# Altium footprint library LoraSMS.PcbLib: 27 footprints (part 2 of 2)
Each footprint in its own frame and in the unit in brackets; x right, y up, seen from the top. Pads: shape width x height; smd on the part's side, far side on the other; paste and mask are expansions set on the pad; w line width, h text height; cw(c..) or ccw(c..) is an arc to the next point about the centre after c.
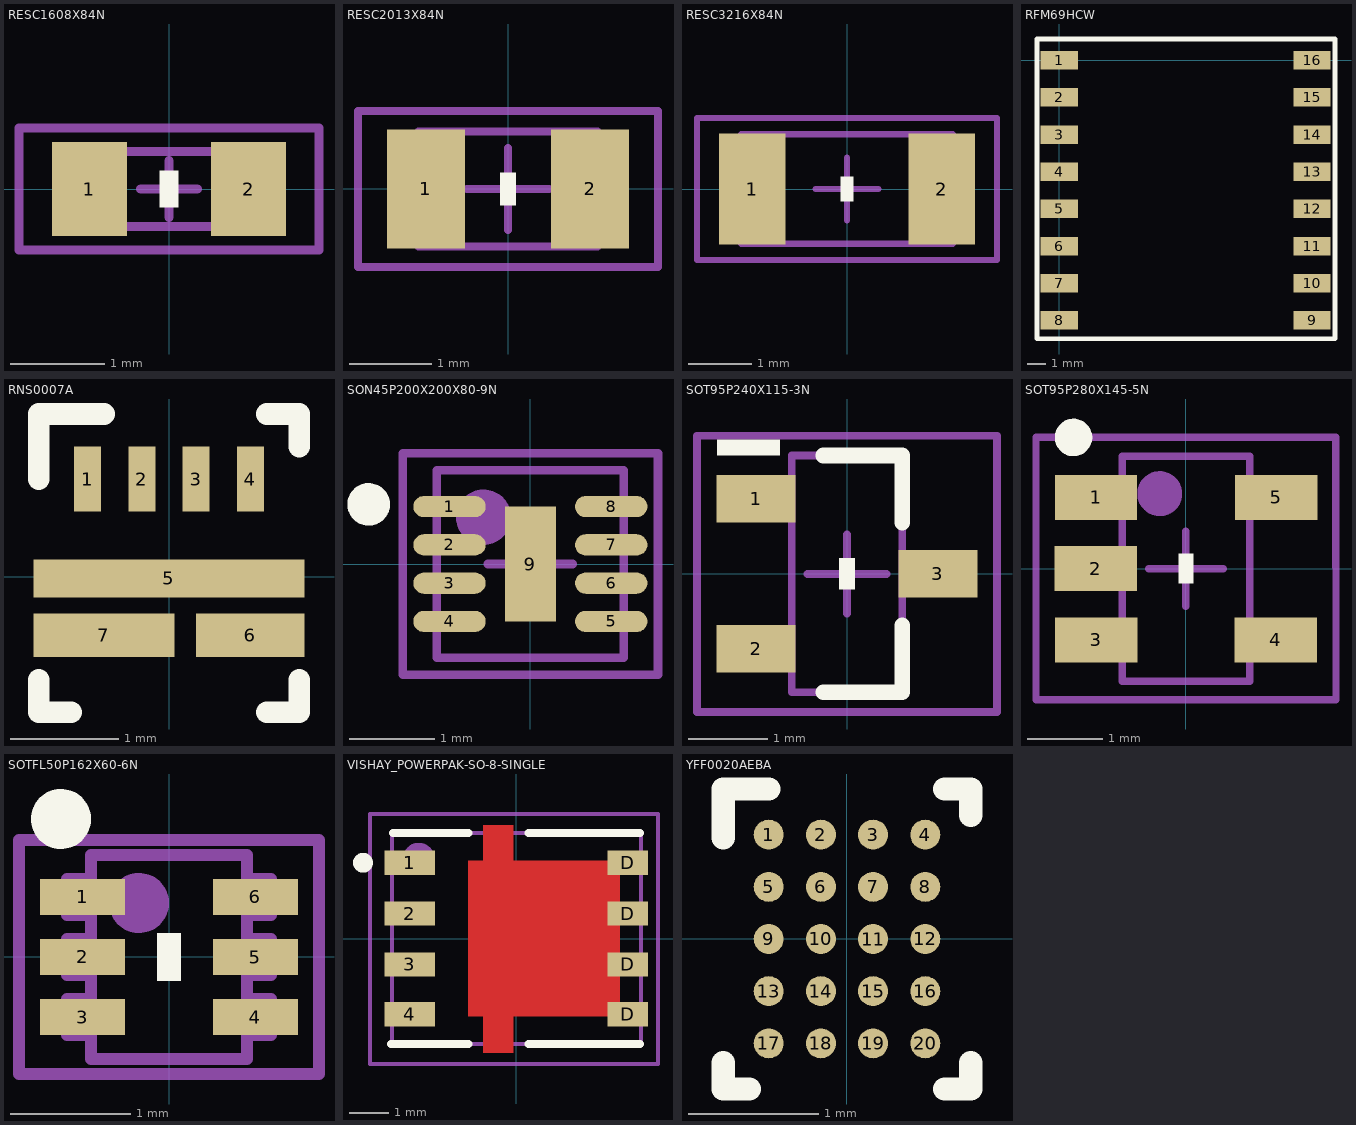
[diagram p1: the footprints below, top view; thin cyan lines are the x and y axes]

## RESC1608X84N [mm] "Chip Resistor, Body 1.6x0.8mm, IPC Medium Density"
height 0.84
pads (2):
  rect 0.8x1 smd: 1(-0.85,0) 2(0.85,0)
Top Overlay:
  rectangle: -0.1,-0.2 0.1,0.2
Mechanical 5:
  text ".Designator" at 0,0 h0.64
Mechanical 13:
  lines w0.1: -0.8,-0.4 -0.8,0.4 0.8,0.4 0.8,-0.4 -0.8,-0.4
Mechanical 15:
  lines w0.1: -0.3,0 0.3,0 ; 0,-0.3 0,0.3 ; -1.6,-0.65 -1.6,0.65 1.6,0.65 1.6,-0.65 -1.6,-0.65
3D body: height 0.84, standoff 0, extent -0.799,-0.399 0.799,0.399

## RESC2013X84N [mm] "Chip Resistor, 2-Leads, Body 2.0x1.3mm, IPC Medium Density"
height 0.84
pads (2):
  rect 0.95x1.45 smd: 1(-1,0) 2(1,0)
Top Overlay:
  rectangle: -0.1,-0.2 0.1,0.2
Mechanical 5:
  text ".Designator" at 0,0 h0.64
Mechanical 13:
  lines w0.1: -1.09,-0.7 1.09,-0.7 1.09,0.7 -1.09,0.7 -1.09,-0.7
Mechanical 15:
  lines w0.1: -0.5,0 0.5,0 ; 0,-0.5 0,0.5 ; -1.825,-0.95 1.825,-0.95 1.825,0.95 -1.825,0.95 -1.825,-0.95
3D body: height 0.84, standoff 0, extent -1.089,-0.699 1.089,0.699

## RESC3216X84N [mm] "Chip Resistor, 2-Leads, Body 3.2x1.6mm, IPC Medium Density"
height 0.84
pads (2):
  rect 1.05x1.75 smd: 1(-1.5,0) 2(1.5,0)
Top Overlay:
  rectangle: -0.1,-0.2 0.1,0.2
Mechanical 5:
  text ".Designator" at 0,0 h0.64
Mechanical 13:
  lines w0.1: -1.675,-0.865 -1.675,0.865 1.675,0.865 1.675,-0.865 -1.675,-0.865
Mechanical 15:
  lines w0.1: -0.5,0 0.5,0 ; 0,-0.5 0,0.5 ; -2.375,-1.125 -2.375,1.125 2.375,1.125 2.375,-1.125 -2.375,-1.125
3D body: height 0.84, standoff 0, extent -1.674,-0.864 1.674,0.864

## RFM69HCW [mm]
height 1.8
pads (16):
  rect 2x1 smd: 1(0,0) 2(0,-2) 3(0,-4) 4(0,-6) 5(0,-8) 6(0,-10) 7(0,-12) 8(0,-14) 9(13.6,-14) 10(13.6,-12) 11(13.6,-10) 12(13.6,-8) 13(13.6,-6) 14(13.6,-4) 15(13.6,-2) 16(13.6,0)
Top Overlay:
  lines w0.254: -1.194,-14.986 14.834,-14.986 14.834,1.143 -1.194,1.143 -1.194,-14.986
3D body: height 1.8, standoff 0, extent -1.194,-14.961 14.808,1.143

## RNS0007A [mm]
height 5.54
pads (7):
  rect 0.25x0.6 smd: 1(-0.75,0.9) 2(-0.25,0.9) 3(0.25,0.9) 4(0.75,0.9)
  rect 2.5x0.35 smd: 5(0,-0.015)
  rect 1x0.4 smd: 6(0.75,-0.54)
  rect 1.3x0.4 smd: 7(-0.6,-0.54)
Top Overlay:
  lines w0.2: -1.2,-0.95 -1.2,-1.25 -0.9,-1.25 ; -1.2,0.9 -1.2,1.5 -0.6,1.5 ; 0.9,-1.25 1.2,-1.25 1.2,-0.95 ; 0.9,1.5 1.2,1.5 1.2,1.2

## SON45P200X200X80-9N [mm] "SMALL OUTLINE NO LEAD, 8-Leads, Body 2.1x2.1mm (max), Pitch 0.45mm, IPC Medium Density"
height 0.8
pads (9):
  oval 0.85x0.25 smd: 1(-0.95,0.675) 2(-0.95,0.225) 3(-0.95,-0.225) 4(-0.95,-0.675) 5(0.95,-0.675) 6(0.95,-0.225) 7(0.95,0.225) 8(0.95,0.675)
  rect 0.6x1.35 smd: 9(0,0)
Top Overlay:
  circle w0.25: c-1.9,0.7 r0.125
Mechanical 5:
  text ".Designator" at 0,0 h0.64
Mechanical 13:
  circle w0.35: c-0.55,0.55 r0.15
  lines w0.1: -1.1,-1.1 -1.1,1.1 1.1,1.1 1.1,-1.1 -1.1,-1.1
Mechanical 15:
  lines w0.1: -0.5,0 0.5,0 ; 0,-0.5 0,0.5 ; -1.5,-1.3 -1.5,1.3 1.5,1.3 1.5,-1.3 -1.5,-1.3
3D body: height 0.8, standoff 0, extent -1.099,-1.099 1.099,1.099

## SOT95P240X115-3N [mm] "SOT23, 3-Leads, Body 3.0x2.5mm (max), Pitch 0.95mm, IPC Medium Density"
height 1.15
pads (3):
  rect 1x0.6 smd: 1(-1.15,0.95) 2(-1.15,-0.95) 3(1.15,0)
Top Overlay:
  region: -0.85,1.5 -0.85,1.7 -1.65,1.7 -1.65,1.5
  rectangle: -0.1,-0.2 0.1,0.2
  lines w0.2: -0.3,-1.5 0.7,-1.5 0.7,-0.65 ; -0.3,1.5 0.7,1.5 0.7,0.65
Mechanical 5:
  text ".Designator" at 0,0 h0.64
Mechanical 13:
  lines w0.1: -0.7,-1.5 -0.7,1.5 0.7,1.5 0.7,-1.5 -0.7,-1.5
Mechanical 15:
  lines w0.1: -0.5,0 0.5,0 ; 0,-0.5 0,0.5 ; -1.9,-1.75 -1.9,1.75 1.9,1.75 1.9,-1.75 -1.9,-1.75
3D body: height 1.15, standoff 0, extent -0.7,-1.499 0.699,1.5

## SOT95P280X145-5N [mm] "SOT23, 5-Leads, Body 3.0x3.0mm (max), Pitch 0.95mm, IPC Medium Density"
height 1.45
pads (5):
  rect 1.1x0.6 smd: 1(-1.2,0.95) 2(-1.2,0) 3(-1.2,-0.95) 4(1.2,-0.95) 5(1.2,0.95)
Top Overlay:
  circle w0.25: c-1.5,1.75 r0.125
  rectangle: -0.1,-0.2 0.1,0.2
Mechanical 5:
  text ".Designator" at 0,0 h0.64
Mechanical 13:
  circle w0.3: c-0.35,1 r0.15
  lines w0.1: -0.85,-1.5 0.85,-1.5 0.85,1.5 -0.85,1.5 -0.85,-1.5
Mechanical 15:
  lines w0.1: -0.5,0 0.5,0 ; 0,-0.5 0,0.5 ; -2,-1.75 2,-1.75 2,1.75 -2,1.75 -2,-1.75
3D body: height 1.45, standoff 0, extent -0.849,-1.499 0.849,1.499

## SOTFL50P162X60-6N [mm] "SC89"
height 0.6
pads (6):
  rect 0.71x0.3 smd mask+0.025: 1(-0.72,0.5) 2(-0.72,0) 3(-0.72,-0.5) 4(0.72,-0.5) 5(0.72,0) 6(0.72,0.5)
Top Overlay:
  circle w0.25: c-0.9,1.15 r0.125
  rectangle: -0.1,-0.2 0.1,0.2
Mechanical 5:
  text ".Designator" at 0,0 h0.64
Mechanical 13:
  circle w0.25: c-0.25,0.45 r0.125
  lines w0.1: -0.65,-0.65 -0.85,-0.65 -0.85,-0.35 -0.65,-0.35 ; -0.65,-0.15 -0.85,-0.15 -0.85,0.15 -0.65,0.15 ; -0.65,0.35 -0.85,0.35 -0.85,0.65 -0.65,0.65 ; 0.65,-0.65 0.85,-0.65 0.85,-0.35 0.65,-0.35 ; 0.65,-0.15 0.85,-0.15 0.85,0.15 0.65,0.15 ; 0.65,0.35 0.85,0.35 0.85,0.65 0.65,0.65 ; -0.65,-0.85 -0.65,0.85 0.65,0.85 0.65,-0.85 -0.65,-0.85
Mechanical 15:
  lines w0.1: -1.25,-0.975 1.25,-0.975 1.25,0.975 -1.25,0.975 -1.25,-0.975
3D body: height 0.6, standoff 0, extent 0.651,0.351 0.849,0.649
3D body: height 0.6, standoff 0, extent 0.651,-0.149 0.849,0.149
3D body: height 0.6, standoff 0, extent 0.651,-0.649 0.849,-0.351
3D body: height 0.6, standoff 0, extent -0.849,0.351 -0.651,0.649
3D body: height 0.6, standoff 0, extent -0.649,-0.849 0.649,0.849
3D body: height 0.6, standoff 0, extent -0.849,-0.149 -0.651,0.149
3D body: height 0.6, standoff 0, extent -0.849,-0.649 -0.651,-0.351

## VISHAY_POWERPAK-SO-8-SINGLE [mm] "MOSFET, N-CHANNEL, POWERPAK SO-8 SINGLE"
height 1.12
pads (8):
  rect 1.27x0.61 smd: 1(-2.675,1.9) 2(-2.675,0.625) 3(-2.675,-0.65) 4(-2.675,-1.9)
  rect 1.02x0.61 smd: D(2.79,-1.9) D(2.79,-0.65) D(2.79,1.9) D(2.79,0.625)
Top Layer:
  rectangle: -0.838,1.93 -0.076,2.845
  rectangle: -0.838,-2.87 -0.076,-1.956
  rectangle: -1.219,-1.956 2.591,1.956
Top Overlay:
  circle w0.25: c-3.85,1.9 r0.125
  lines w0.2: -3.15,-2.65 -1.2,-2.65 ; -3.1,2.65 -1.2,2.65 ; 0.3,-2.65 3.1,-2.65 ; 0.3,2.65 3.1,2.65
Top Paste:
  rectangle: -1.168,0.33 1.905,1.575
  rectangle: -1.168,-1.575 1.905,-0.33
  rectangle: -0.813,1.956 -0.102,2.819
  rectangle: -0.813,-2.845 -0.102,-1.956
Top Solder:
  rectangle: -0.85,-2.9 -0.05,-1.95
  rectangle: -0.864,1.92 -0.064,2.87
  rectangle: -1.225,-1.95 2.6,1.956
Mechanical 5:
  text ".Designator" at 0,0 h0.64
Mechanical 13:
  circle w0.4: c-2.45,2 r0.2
  lines w0.1: -3.125,-2.65 3.125,-2.65 3.125,2.65 -3.125,2.65 -3.125,-2.65
Mechanical 15:
  lines w0.1: -3.675,-3.15 3.55,-3.15 3.55,3.125 -3.675,3.125 -3.675,-3.15
  lines w0.254: -0.5,0 0,0 ; 0,-0.5 0,0 ; 0,0.5 0,0 ; 0.5,0 0,0
3D body: height 1.12, standoff 0, extent -3.124,-2.649 3.124,2.649

## YFF0020AEBA [mm]
height 5.54
pads (20):
  round 0.23 smd: 1(-0.6,0.8) 2(-0.2,0.8) 3(0.2,0.8) 4(0.6,0.8) 5(-0.6,0.4) 6(-0.2,0.4) 7(0.2,0.4) 8(0.6,0.4) 9(-0.6,0) 10(-0.2,0) 11(0.2,0) 12(0.6,0) 13(-0.6,-0.4) 14(-0.2,-0.4) 15(0.2,-0.4) 16(0.6,-0.4) 17(-0.6,-0.8) 18(-0.2,-0.8) 19(0.2,-0.8) 20(0.6,-0.8)
Top Overlay:
  lines w0.18: -0.95,-0.95 -0.95,-1.15 -0.75,-1.15 ; -0.95,0.775 -0.95,1.15 -0.6,1.15 ; 0.75,-1.15 0.95,-1.15 0.95,-0.95 ; 0.75,1.15 0.95,1.15 0.95,0.95
Top Paste:
  circle w0.05: c-0.525,-0.725 r0.025
  circle w0.05: c-0.675,-0.875 r0.025
  circle w0.05: c-0.675,-0.725 r0.025
  circle w0.05: c-0.525,-0.875 r0.025
  circle w0.05: c-0.125,-0.875 r0.025
  circle w0.05: c-0.275,-0.725 r0.025
  circle w0.05: c-0.275,-0.875 r0.025
  circle w0.05: c-0.125,-0.725 r0.025
  circle w0.05: c0.275,-0.875 r0.025
  circle w0.05: c0.125,-0.725 r0.025
  circle w0.05: c0.125,-0.875 r0.025
  circle w0.05: c0.275,-0.725 r0.025
  circle w0.05: c0.675,-0.875 r0.025
  circle w0.05: c0.525,-0.725 r0.025
  circle w0.05: c0.525,-0.875 r0.025
  circle w0.05: c0.675,-0.725 r0.025
  circle w0.05: c-0.525,-0.325 r0.025
  circle w0.05: c-0.675,-0.475 r0.025
  circle w0.05: c-0.675,-0.325 r0.025
  circle w0.05: c-0.525,-0.475 r0.025
  circle w0.05: c-0.125,-0.475 r0.025
  circle w0.05: c-0.275,-0.325 r0.025
  circle w0.05: c-0.275,-0.475 r0.025
  circle w0.05: c-0.125,-0.325 r0.025
  circle w0.05: c0.275,-0.475 r0.025
  circle w0.05: c0.125,-0.325 r0.025
  circle w0.05: c0.125,-0.475 r0.025
  circle w0.05: c0.275,-0.325 r0.025
  circle w0.05: c0.675,-0.475 r0.025
  circle w0.05: c0.525,-0.325 r0.025
  circle w0.05: c0.525,-0.475 r0.025
  circle w0.05: c0.675,-0.325 r0.025
  circle w0.05: c-0.525,0.075 r0.025
  circle w0.05: c-0.675,-0.075 r0.025
  circle w0.05: c-0.675,0.075 r0.025
  circle w0.05: c-0.525,-0.075 r0.025
  circle w0.05: c-0.125,-0.075 r0.025
  circle w0.05: c-0.275,0.075 r0.025
  circle w0.05: c-0.275,-0.075 r0.025
  circle w0.05: c-0.125,0.075 r0.025
  circle w0.05: c0.275,-0.075 r0.025
  circle w0.05: c0.125,0.075 r0.025
  circle w0.05: c0.125,-0.075 r0.025
  circle w0.05: c0.275,0.075 r0.025
  circle w0.05: c0.675,-0.075 r0.025
  circle w0.05: c0.525,0.075 r0.025
  circle w0.05: c0.525,-0.075 r0.025
  circle w0.05: c0.675,0.075 r0.025
  circle w0.05: c-0.525,0.475 r0.025
  circle w0.05: c-0.675,0.325 r0.025
  circle w0.05: c-0.675,0.475 r0.025
  circle w0.05: c-0.525,0.325 r0.025
  circle w0.05: c-0.125,0.325 r0.025
  circle w0.05: c-0.275,0.475 r0.025
  circle w0.05: c-0.275,0.325 r0.025
  circle w0.05: c-0.125,0.475 r0.025
  circle w0.05: c0.275,0.325 r0.025
  circle w0.05: c0.125,0.475 r0.025
  circle w0.05: c0.125,0.325 r0.025
  circle w0.05: c0.275,0.475 r0.025
  circle w0.05: c0.675,0.325 r0.025
  circle w0.05: c0.525,0.475 r0.025
  circle w0.05: c0.525,0.325 r0.025
  circle w0.05: c0.675,0.475 r0.025
  circle w0.05: c-0.525,0.875 r0.025
  circle w0.05: c-0.675,0.725 r0.025
  circle w0.05: c-0.675,0.875 r0.025
  circle w0.05: c-0.525,0.725 r0.025
  circle w0.05: c-0.125,0.725 r0.025
  circle w0.05: c-0.275,0.875 r0.025
  circle w0.05: c-0.275,0.725 r0.025
  circle w0.05: c-0.125,0.875 r0.025
  circle w0.05: c0.275,0.725 r0.025
  circle w0.05: c0.125,0.875 r0.025
  circle w0.05: c0.125,0.725 r0.025
  circle w0.05: c0.275,0.875 r0.025
  circle w0.05: c0.675,0.725 r0.025
  circle w0.05: c0.525,0.875 r0.025
  circle w0.05: c0.525,0.725 r0.025
  circle w0.05: c0.675,0.875 r0.025